# Altium schematic symbol library CLV1A-FKB.Schlib: 1 symbol
Pins are listed as number, name and electrical type; pins without a type are passive.

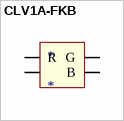
[diagram p0: symbol CLV1A-FKB]

## CLV1A-FKB
designator *
pins: 1 R, 2 1, 3 B, 4 G